# Altium integrated library PCB Terminal Screw block.IntLib: 1 symbol
Pins are listed as number, name and electrical type; pins without a type are passive.

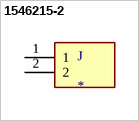
[diagram p0: symbol 1546215-2]

## 1546215-2
designator J
TERMI-BLOK PCB MOUNT, 90 2P.; MF: TE Connectivity; MP: 1546215-2; Package: None; Value: *; TE_purchase_URL: https://www.te.com/usa-en/product-1546215-2.html?te_bu=Cor&te_type=disp&te_campaign=seda_glo_cor-seda-global-disp-prtnr-fy19-seda-model-bom-cta_sma-317_1&elqCampaignId=32493; Price: None; SnapEDA_Link: https://www.snapeda.com/parts/1546215-2/TE%20Connectivity%20AMP%20Connectors/view-part/610724/?ref=snap; Availability: Unavailable; EU_RoHS_Compliance: Compliant with Exemptions
footprint TE_1546215-2
pins: 1, 2